# EAGLE library part SN74LVC1T45-EP (library OSSI)
SN74LVC1T45-EP SINGLE-BIT DUAL-SUPPLY BUS TRANSCEIVER WITH CONFIGURABLE VOLTAGE TRANSLATION AND 3-STATE OUTPUTS
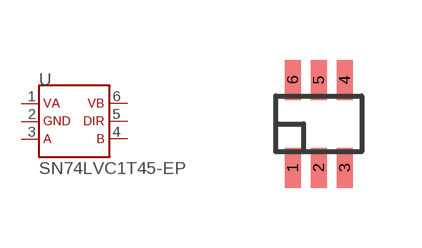
[diagram p48: symbol with the pads of SOT-6DCK; footprint SOT-6DCK]

Designator prefix U

## SN74LVC1T45-EP  [SOT-6DCK]
1  P$1
2  P$2
3  P$3
4  P$4
5  P$5
6  P$6

## Footprint SOT-6DCK (pad centres in mm)
smd 0.4 x 1: 1 -0.65,-1.1; 2 0,-1.1; 3 0.65,-1.1; 4 0.65,1.1; 5 0,1.1; 6 -0.65,1.1